# Altium integrated library Motorola Logic Register.IntLib: 65 symbols (part 1 of 2)
Pins are listed as number, name and electrical type; pins without a type are passive.

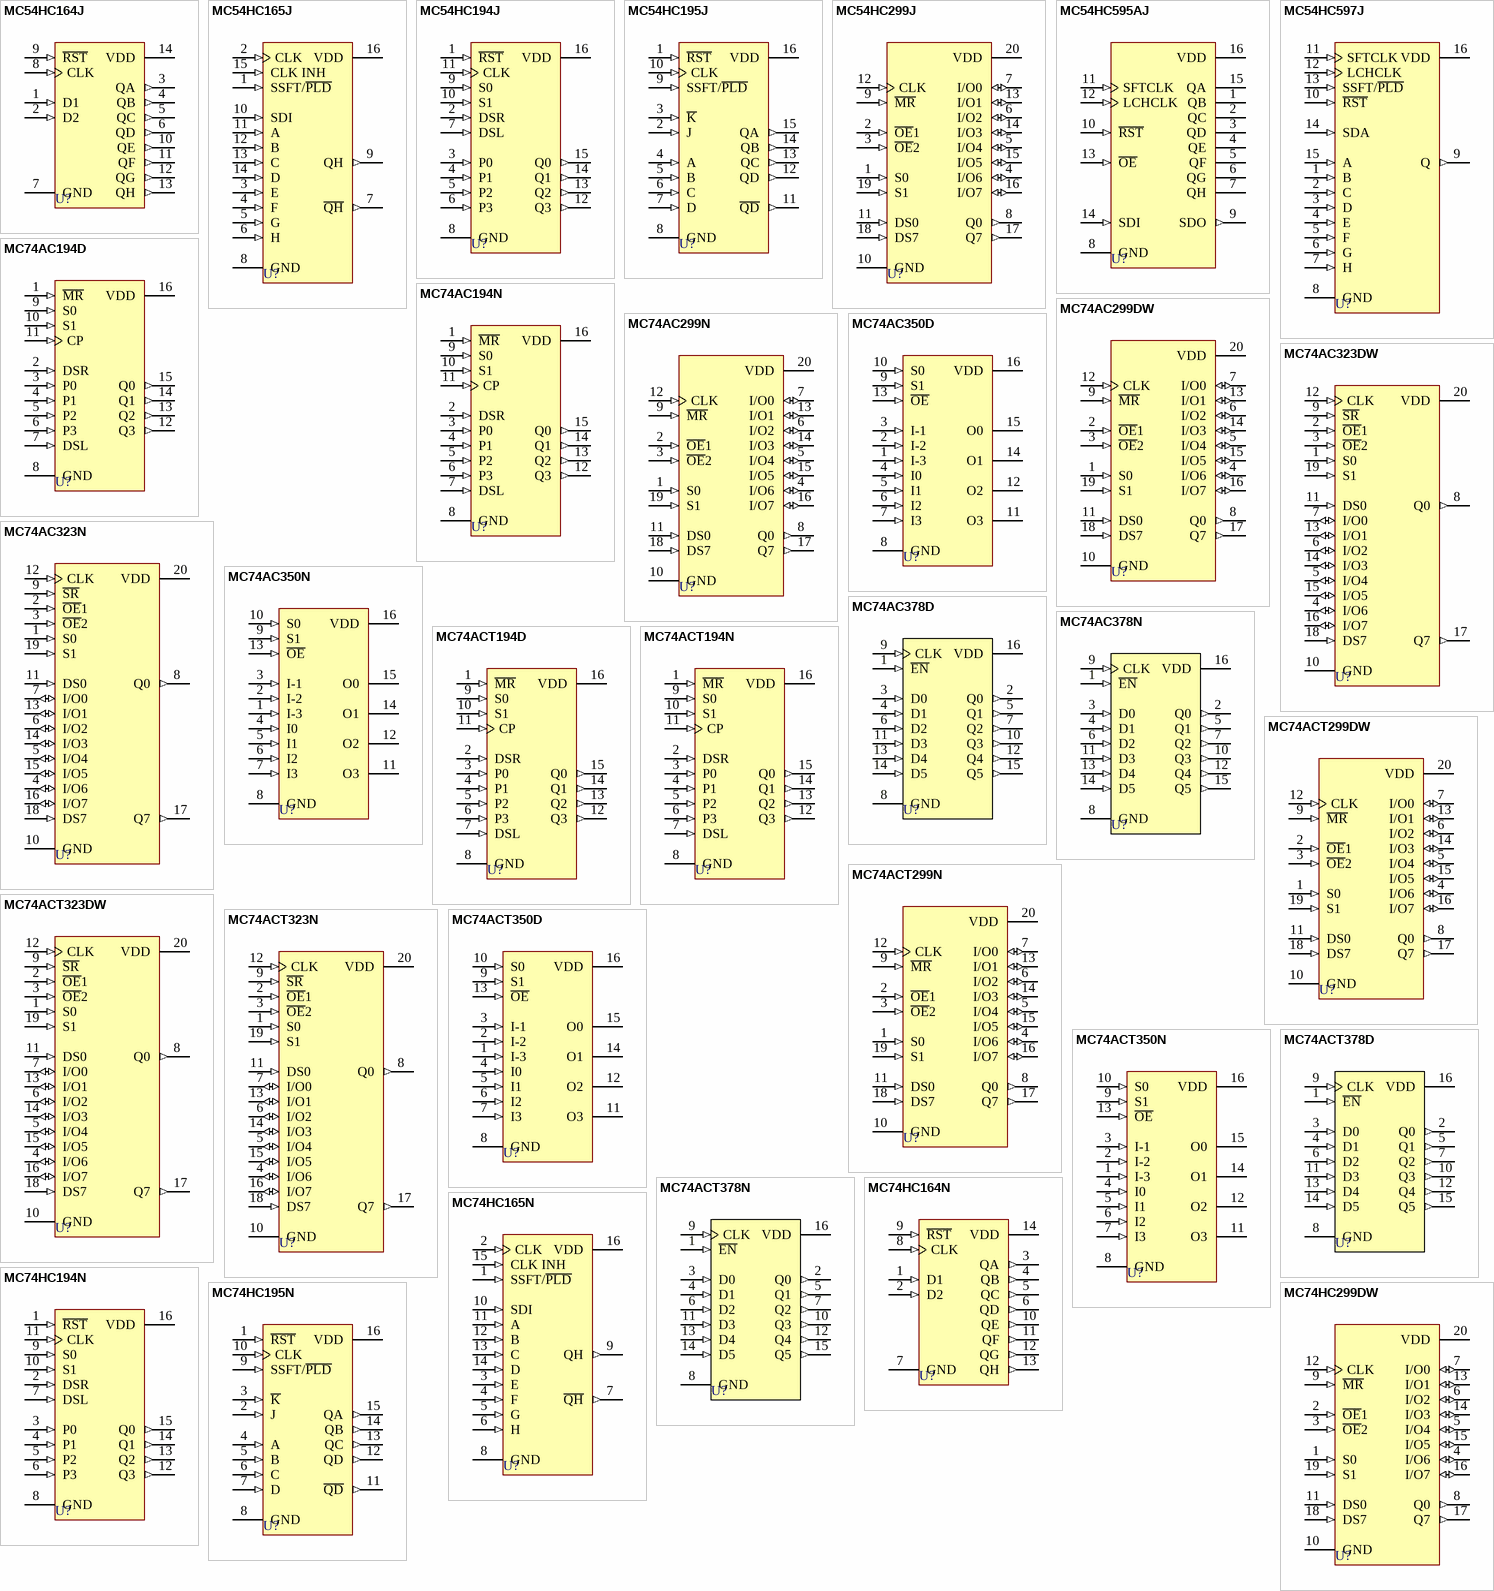
[diagram p0: symbols MC54HC164J to MC74HC299DW]

## MC54HC164J
designator U?
8-Bit Serial-Input/Parallel-Output Shift Register; Published: 17-Jul-2002; LatestRevisionDate: 06-Jun-2005; LatestRevisionNote: Stylized 3D Model Added; DatasheetVersion: 1989; PackageReference: 632-08; Publisher: Altium Limited; PackageDescription: DIP; 14 Leads; Row Spacing 7.62 mm; Pitch 2.54 mm; ComponentLink1Description: Manufacturer Link; ComponentLink1URL: http://www.onsemi.com/site/products/parametrics/0,4446,557,00.html
footprint 632-08 (DIP; 14 Leads; Row Spacing 7.62 mm; Pitch 2.54 mm)
3D model 632-08 (DIP; 14 Leads; Row Spacing 7.62 mm; Pitch 2.54 mm)
signal-integrity model MC54HC164J
pins: 1 D1 (in), 2 D2 (in), 3 QA (out), 4 QB (out), 5 QC (out), 6 QD (out), 7 GND (power), 8 CLK (in), 9 ~{RST} (in), 10 QE (out), 11 QF (out), 12 QG (out), 13 QH (out), 14 VDD (power)

## MC54HC165J
designator U?
8-Bit Serial-or-Parallel-Input/Serial-Output Shift Register; Published: 17-Jul-2002; LatestRevisionDate: 06-Jun-2005; LatestRevisionNote: Stylized 3D Model Added; DatasheetVersion: 1989; PackageReference: 620-09; Publisher: Altium Limited; PackageDescription: DIP; 16 Leads; Row Spacing 7.62 mm; Pitch 2.54 mm; Code_JEDEC: MS-001-BB; ComponentLink1Description: Manufacturer Link; ComponentLink1URL: http://www.onsemi.com/site/products/parametrics/0,4446,557,00.html
footprint 620-09 (DIP; 16 Leads; Row Spacing 7.62 mm; Pitch 2.54 mm)
3D model 620-09 (DIP; 16 Leads; Row Spacing 7.62 mm; Pitch 2.54 mm)
signal-integrity model MC54HC165J
pins: 1 SSFT/~{PLD} (in), 2 CLK (in), 3 E (in), 4 F (in), 5 G (in), 6 H (in), 7 ~{QH} (out), 8 GND (power), 9 QH (out), 10 SDI (in), 11 A (in), 12 B (in), 13 C (in), 14 D (in), 15 CLK INH (in), 16 VDD (power)

## MC54HC194J
designator U?
4-Bit Bidirectional Universal Shift Register; Published: 17-Jul-2002; LatestRevisionDate: 06-Jun-2005; LatestRevisionNote: Stylized 3D Model Added; DatasheetVersion: 1989; PackageReference: 620-09; Publisher: Altium Limited; PackageDescription: DIP; 16 Leads; Row Spacing 7.62 mm; Pitch 2.54 mm; Code_JEDEC: MS-001-BB; ComponentLink1Description: Manufacturer Link; ComponentLink1URL: http://www.onsemi.com/site/products/parametrics/0,4446,557,00.html
footprint 620-09 (DIP; 16 Leads; Row Spacing 7.62 mm; Pitch 2.54 mm)
3D model 620-09 (DIP; 16 Leads; Row Spacing 7.62 mm; Pitch 2.54 mm)
signal-integrity model MC54HC194J
pins: 1 ~{RST} (in), 2 DSR (in), 3 P0 (in), 4 P1 (in), 5 P2 (in), 6 P3 (in), 7 DSL (in), 8 GND (power), 9 S0 (in), 10 S1 (in), 11 CLK (in), 12 Q3 (out), 13 Q2 (out), 14 Q1 (out), 15 Q0 (out), 16 VDD (power)

## MC54HC195J
designator U?
4-Bit Universal Shift Register; Published: 17-Jul-2002; LatestRevisionDate: 06-Jun-2005; LatestRevisionNote: Stylized 3D Model Added; DatasheetVersion: 1989; PackageReference: 620-09; Publisher: Altium Limited; PackageDescription: DIP; 16 Leads; Row Spacing 7.62 mm; Pitch 2.54 mm; Code_JEDEC: MS-001-BB; ComponentLink1Description: Manufacturer Link; ComponentLink1URL: http://www.onsemi.com/site/products/parametrics/0,4446,557,00.html
footprint 620-09 (DIP; 16 Leads; Row Spacing 7.62 mm; Pitch 2.54 mm)
3D model 620-09 (DIP; 16 Leads; Row Spacing 7.62 mm; Pitch 2.54 mm)
signal-integrity model MC54HC195J
pins: 1 ~{RST} (in), 2 J (in), 3 ~{K} (in), 4 A (in), 5 B (in), 6 C (in), 7 D (in), 8 GND (power), 9 SSFT/~{PLD} (in), 10 CLK (in), 11 ~{QD} (out), 12 QD (out), 13 QC (out), 14 QB (out), 15 QA (out), 16 VDD (power)

## MC54HC299J
designator U?
8-Bit Bidirectional Universal Shift Register with Parallel I/O; Published: 17-Jul-2002; LatestRevisionDate: 06-Jun-2005; LatestRevisionNote: Stylized 3D Model Added; DatasheetVersion: 1989; PackageReference: 732-03; Publisher: Altium Limited; PackageDescription: DIP; 20 Leads; Row Spacing 7.62 mm; Pitch 2.54 mm; Code_JEDEC: MS-015-AE; ComponentLink1Description: Manufacturer Link; ComponentLink1URL: http://www.onsemi.com/site/products/parametrics/0,4446,557,00.html
footprint 732-03 (DIP; 20 Leads; Row Spacing 7.62 mm; Pitch 2.54 mm)
3D model 732-03 (DIP; 20 Leads; Row Spacing 7.62 mm; Pitch 2.54 mm)
signal-integrity model MC54HC299J
pins: 1 S0 (in), 2 ~{OE}1 (in), 3 ~{OE}2 (in), 4 I/O6 (io), 5 I/O4 (io), 6 I/O2 (io), 7 I/O0 (io), 8 Q0 (out), 9 ~{MR} (in), 10 GND (power), 11 DS0 (in), 12 CLK (in), 13 I/O1 (io), 14 I/O3 (io), 15 I/O5 (io), 16 I/O7 (io), 17 Q7 (out), 18 DS7 (in), 19 S1 (in), 20 VDD (power)

## MC54HC595AJ
designator U?
8-Bit Serial-Input/Serial-or-Parallel-Output Shift Register with Latched 3-State Outputs; Published: 17-Jul-2002; LatestRevisionDate: 06-Jun-2005; LatestRevisionNote: Stylized 3D Model Added; DatasheetVersion: 1989; PackageReference: 620-09; Publisher: Altium Limited; PackageDescription: DIP; 16 Leads; Row Spacing 7.62 mm; Pitch 2.54 mm; Code_JEDEC: MS-001-BB; ComponentLink1Description: Manufacturer Link; ComponentLink1URL: http://www.onsemi.com/site/products/parametrics/0,4446,557,00.html
footprint 620-09 (DIP; 16 Leads; Row Spacing 7.62 mm; Pitch 2.54 mm)
3D model 620-09 (DIP; 16 Leads; Row Spacing 7.62 mm; Pitch 2.54 mm)
signal-integrity model MC54HC595AJ
pins: 1 QB (hiz), 2 QC (hiz), 3 QD (hiz), 4 QE (hiz), 5 QF (hiz), 6 QG (hiz), 7 QH (hiz), 8 GND (power), 9 SDO (out), 10 ~{RST} (in), 11 SFTCLK (in), 12 LCHCLK (in), 13 ~{OE} (in), 14 SDI (in), 15 QA (hiz), 16 VDD (power)

## MC54HC597J
designator U?
8-Bit Serial-or-Parallel-Input/Serial-Output Shift Register with Input Latch; Published: 17-Jul-2002; LatestRevisionDate: 06-Jun-2005; LatestRevisionNote: Stylized 3D Model Added; DatasheetVersion: 1989; PackageReference: 620-09; Publisher: Altium Limited; PackageDescription: DIP; 16 Leads; Row Spacing 7.62 mm; Pitch 2.54 mm; Code_JEDEC: MS-001-BB; ComponentLink1Description: Manufacturer Link; ComponentLink1URL: http://www.onsemi.com/site/products/parametrics/0,4446,557,00.html
footprint 620-09 (DIP; 16 Leads; Row Spacing 7.62 mm; Pitch 2.54 mm)
3D model 620-09 (DIP; 16 Leads; Row Spacing 7.62 mm; Pitch 2.54 mm)
signal-integrity model MC54HC597J
pins: 1 B (in), 2 C (in), 3 D (in), 4 E (in), 5 F (in), 6 G (in), 7 H (in), 8 GND (power), 9 Q (out), 10 ~{RST} (in), 11 SFTCLK (in), 12 LCHCLK (in), 13 SSFT/~{PLD} (in), 14 SDA (in), 15 A (in), 16 VDD (power)

## MC74AC194D
designator U?
4-Bit Bidirectional Universal Shift Register; Published: 17-Jul-2002; LatestRevisionDate: 13-Apr-2006; LatestRevisionNote: IPC-7351 Footprint Added.; DatasheetVersion: 1990; PackageVersion: 1991; PackageReference: 751B-03; Publisher: Altium Limited; PackageDescription: 16-Pin Small Outline Integrated Circuit 1.27 mm Pitch; Code_JEDEC: MS-012-AC; Code_IPC: SOIC127P600-16; ComponentLink1Description: Manufacturer Link; ComponentLink1URL: http://www.onsemi.com/site/products/parametrics/0,4446,557,00.html
footprint 751B-03_N (SOIC, 16-Leads, Body 9.9x3.9mm, Pitch 1.27mm, IPC Medium Density)
footprint 751B-03_L (SOIC, 16-Leads, Body 9.9x3.9mm, Pitch 1.27mm, IPC High Density)
footprint 751B-03_M (SOIC, 16-Leads, Body 9.9x3.9mm, Pitch 1.27mm, IPC Low Density)
3D model 751B-03 (16-Pin Small Outline Integrated Circuit 1.27 mm Pitch)
signal-integrity model MC74AC194D
pins: 1 ~{MR} (in), 2 DSR (in), 3 P0 (in), 4 P1 (in), 5 P2 (in), 6 P3 (in), 7 DSL (in), 8 GND (power), 9 S0 (in), 10 S1 (in), 11 CP (in), 12 Q3 (out), 13 Q2 (out), 14 Q1 (out), 15 Q0 (out), 16 VDD (power)

## MC74AC194N
designator U?
4-Bit Bidirectional Universal Shift Register; Published: 17-Jul-2002; LatestRevisionDate: 06-Jun-2005; LatestRevisionNote: Stylized 3D Model Added; DatasheetVersion: 1990; PackageReference: 648-08; Publisher: Altium Limited; PackageDescription: DIP; 16 Leads; Row Spacing 7.62 mm; Pitch 2.54 mm; Code_JEDEC: MS-001-BB; ComponentLink1Description: Manufacturer Link; ComponentLink1URL: http://www.onsemi.com/site/products/parametrics/0,4446,557,00.html
footprint 648-08 (DIP; 16 Leads; Row Spacing 7.62 mm; Pitch 2.54 mm)
3D model 620-09 (DIP; 16 Leads; Row Spacing 7.62 mm; Pitch 2.54 mm)
signal-integrity model MC74AC194N
pins: 1 ~{MR} (in), 2 DSR (in), 3 P0 (in), 4 P1 (in), 5 P2 (in), 6 P3 (in), 7 DSL (in), 8 GND (power), 9 S0 (in), 10 S1 (in), 11 CP (in), 12 Q3 (out), 13 Q2 (out), 14 Q1 (out), 15 Q0 (out), 16 VDD (power)

## MC74AC299DW
designator U?
8-Input Shift/Storage register with Common Parallel I/O Pins; Published: 17-Jul-2002; LatestRevisionDate: 13-Apr-2006; LatestRevisionNote: IPC-7351 Footprint Added.; DatasheetVersion: 1990; PackageReference: 751D-03; Publisher: Altium Limited; PackageDescription: 20-Pin Small Outline Integrated Circuit 1.27 mm Pitch; ComponentLink1Description: Manufacturer Link; ComponentLink1URL: http://www.onsemi.com/site/products/parametrics/0,4446,557,00.html; ComponentLink2Description: Datasheet; ComponentLink2URL: http://www.onsemi.com/pub/Collateral/MC74AC299-D.PDF
footprint 751D-03_N (SOIC, 20-Leads, Body 12.8x7.5mm, Pitch 1.27mm, IPC Medium Density)
footprint 751D-03_L (SOIC, 20-Leads, Body 12.8x7.5mm, Pitch 1.27mm, IPC High Density)
footprint 751D-03_M (SOIC, 20-Leads, Body 12.8x7.5mm, Pitch 1.27mm, IPC Low Density)
3D model 751D-03 (20-Pin Small Outline Integrated Circuit 1.27 mm Pitch)
signal-integrity model MC74AC299DW
pins: 1 S0 (in), 2 ~{OE}1 (in), 3 ~{OE}2 (in), 4 I/O6 (io), 5 I/O4 (io), 6 I/O2 (io), 7 I/O0 (io), 8 Q0 (out), 9 ~{MR} (in), 10 GND (power), 11 DS0 (in), 12 CLK (in), 13 I/O1 (io), 14 I/O3 (io), 15 I/O5 (io), 16 I/O7 (io), 17 Q7 (out), 18 DS7 (in), 19 S1 (in), 20 VDD (power)

## MC74AC299N
designator U?
8-Input Shift/Storage register with Common Parallel I/O Pins; Published: 17-Jul-2002; LatestRevisionDate: 06-Jun-2005; LatestRevisionNote: Stylized 3D Model Added; DatasheetVersion: 1990; PackageReference: 738-03; Publisher: Altium Limited; PackageDescription: DIP; 20 Leads; Row Spacing 7.62 mm; Pitch 2.54 mm; Code_JEDEC: MS-001-AD; ComponentLink1Description: Manufacturer Link; ComponentLink1URL: http://www.onsemi.com/site/products/parametrics/0,4446,557,00.html; ComponentLink2Description: Datasheet; ComponentLink2URL: http://www.onsemi.com/pub/Collateral/MC74AC299-D.PDF
footprint 738-03 (DIP; 20 Leads; Row Spacing 7.62 mm; Pitch 2.54 mm)
3D model 738-03 (DIP; 20 Leads; Row Spacing 7.62 mm; Pitch 2.54 mm)
signal-integrity model MC74AC299N
pins: 1 S0 (in), 2 ~{OE}1 (in), 3 ~{OE}2 (in), 4 I/O6 (io), 5 I/O4 (io), 6 I/O2 (io), 7 I/O0 (io), 8 Q0 (out), 9 ~{MR} (in), 10 GND (power), 11 DS0 (in), 12 CLK (in), 13 I/O1 (io), 14 I/O3 (io), 15 I/O5 (io), 16 I/O7 (io), 17 Q7 (out), 18 DS7 (in), 19 S1 (in), 20 VDD (power)

## MC74AC323DW
designator U?
8-Input Universal Shift/Storage Register with Synchronous Reset and Common I/O Pins; Published: 17-Jul-2002; LatestRevisionDate: 13-Apr-2006; LatestRevisionNote: IPC-7351 Footprint Added.; DatasheetVersion: 1990; PackageReference: 751D-03; Publisher: Altium Limited; PackageDescription: 20-Pin Small Outline Integrated Circuit 1.27 mm Pitch; ComponentLink1Description: Manufacturer Link; ComponentLink1URL: http://www.onsemi.com/site/products/parametrics/0,4446,557,00.html
footprint 751D-03_N (SOIC, 20-Leads, Body 12.8x7.5mm, Pitch 1.27mm, IPC Medium Density)
footprint 751D-03_L (SOIC, 20-Leads, Body 12.8x7.5mm, Pitch 1.27mm, IPC High Density)
footprint 751D-03_M (SOIC, 20-Leads, Body 12.8x7.5mm, Pitch 1.27mm, IPC Low Density)
3D model 751D-03 (20-Pin Small Outline Integrated Circuit 1.27 mm Pitch)
signal-integrity model MC74AC323DW
pins: 1 S0 (in), 2 ~{OE}1 (in), 3 ~{OE}2 (in), 4 I/O6 (io), 5 I/O4 (io), 6 I/O2 (io), 7 I/O0 (io), 8 Q0 (out), 9 ~{SR} (in), 10 GND (power), 11 DS0 (in), 12 CLK (in), 13 I/O1 (io), 14 I/O3 (io), 15 I/O5 (io), 16 I/O7 (io), 17 Q7 (out), 18 DS7 (in), 19 S1 (in), 20 VDD (power)

## MC74AC323N
designator U?
8-Input Universal Shift/Storage Register with Synchronous Reset and Common I/O Pins; Published: 17-Jul-2002; LatestRevisionDate: 06-Jun-2005; LatestRevisionNote: Stylized 3D Model Added; DatasheetVersion: 1990; PackageReference: 738-03; Publisher: Altium Limited; PackageDescription: DIP; 20 Leads; Row Spacing 7.62 mm; Pitch 2.54 mm; Code_JEDEC: MS-001-AD; ComponentLink1Description: Manufacturer Link; ComponentLink1URL: http://www.onsemi.com/site/products/parametrics/0,4446,557,00.html
footprint 738-03 (DIP; 20 Leads; Row Spacing 7.62 mm; Pitch 2.54 mm)
3D model 738-03 (DIP; 20 Leads; Row Spacing 7.62 mm; Pitch 2.54 mm)
signal-integrity model MC74AC323N
pins: 1 S0 (in), 2 ~{OE}1 (in), 3 ~{OE}2 (in), 4 I/O6 (io), 5 I/O4 (io), 6 I/O2 (io), 7 I/O0 (io), 8 Q0 (out), 9 ~{SR} (in), 10 GND (power), 11 DS0 (in), 12 CLK (in), 13 I/O1 (io), 14 I/O3 (io), 15 I/O5 (io), 16 I/O7 (io), 17 Q7 (out), 18 DS7 (in), 19 S1 (in), 20 VDD (power)

## MC74AC350D
designator U?
4-Bit Shifter with 3-State Outputs; Published: 17-Jul-2002; LatestRevisionDate: 13-Apr-2006; LatestRevisionNote: IPC-7351 Footprint Added.; DatasheetVersion: 1990; PackageVersion: 1991; PackageReference: 751B-03; Publisher: Altium Limited; PackageDescription: 16-Pin Small Outline Integrated Circuit 1.27 mm Pitch; Code_JEDEC: MS-012-AC; Code_IPC: SOIC127P600-16; ComponentLink1Description: Manufacturer Link; ComponentLink1URL: http://www.onsemi.com/site/products/parametrics/0,4446,557,00.html
footprint 751B-03_N (SOIC, 16-Leads, Body 9.9x3.9mm, Pitch 1.27mm, IPC Medium Density)
footprint 751B-03_L (SOIC, 16-Leads, Body 9.9x3.9mm, Pitch 1.27mm, IPC High Density)
footprint 751B-03_M (SOIC, 16-Leads, Body 9.9x3.9mm, Pitch 1.27mm, IPC Low Density)
3D model 751B-03 (16-Pin Small Outline Integrated Circuit 1.27 mm Pitch)
signal-integrity model MC74AC350D
pins: 1 I-3 (in), 2 I-2 (in), 3 I-1 (in), 4 I0 (in), 5 I1 (in), 6 I2 (in), 7 I3 (in), 8 GND (power), 9 S1 (in), 10 S0 (in), 11 O3 (hiz), 12 O2 (hiz), 13 ~{OE} (in), 14 O1 (hiz), 15 O0 (hiz), 16 VDD (power)

## MC74AC350N
designator U?
4-Bit Shifter with 3-State Outputs; Published: 17-Jul-2002; LatestRevisionDate: 06-Jun-2005; LatestRevisionNote: Stylized 3D Model Added; DatasheetVersion: 1990; PackageReference: 648-08; Publisher: Altium Limited; PackageDescription: DIP; 16 Leads; Row Spacing 7.62 mm; Pitch 2.54 mm; Code_JEDEC: MS-001-BB; ComponentLink1Description: Manufacturer Link; ComponentLink1URL: http://www.onsemi.com/site/products/parametrics/0,4446,557,00.html
footprint 648-08 (DIP; 16 Leads; Row Spacing 7.62 mm; Pitch 2.54 mm)
3D model 620-09 (DIP; 16 Leads; Row Spacing 7.62 mm; Pitch 2.54 mm)
signal-integrity model MC74AC350N
pins: 1 I-3 (in), 2 I-2 (in), 3 I-1 (in), 4 I0 (in), 5 I1 (in), 6 I2 (in), 7 I3 (in), 8 GND (power), 9 S1 (in), 10 S0 (in), 11 O3 (hiz), 12 O2 (hiz), 13 ~{OE} (in), 14 O1 (hiz), 15 O0 (hiz), 16 VDD (power)

## MC74AC378D
designator U?
Parallel D-Type Register with Enable; Published: 17-Jul-2002; LatestRevisionDate: 13-Apr-2006; LatestRevisionNote: IPC-7351 Footprint Added.; DatasheetVersion: 1990; PackageVersion: 1991; PackageReference: 751B-03; Publisher: Altium Limited; PackageDescription: 16-Pin Small Outline Integrated Circuit 1.27 mm Pitch; Code_JEDEC: MS-012-AC; Code_IPC: SOIC127P600-16; ComponentLink1Description: Manufacturer Link; ComponentLink1URL: http://www.onsemi.com/site/products/parametrics/0,4446,557,00.html
footprint 751B-03_N (SOIC, 16-Leads, Body 9.9x3.9mm, Pitch 1.27mm, IPC Medium Density)
footprint 751B-03_L (SOIC, 16-Leads, Body 9.9x3.9mm, Pitch 1.27mm, IPC High Density)
footprint 751B-03_M (SOIC, 16-Leads, Body 9.9x3.9mm, Pitch 1.27mm, IPC Low Density)
3D model 751B-03 (16-Pin Small Outline Integrated Circuit 1.27 mm Pitch)
signal-integrity model MC74AC378D
pins: 1 ~{EN} (in), 2 Q0 (out), 3 D0 (in), 4 D1 (in), 5 Q1 (out), 6 D2 (in), 7 Q2 (out), 8 GND (power), 9 CLK (in), 10 Q3 (out), 11 D3 (in), 12 Q4 (out), 13 D4 (in), 14 D5 (in), 15 Q5 (out), 16 VDD (power)

## MC74AC378N
designator U?
Parallel D-Type Register with Enable; Published: 17-Jul-2002; LatestRevisionDate: 06-Jun-2005; LatestRevisionNote: Stylized 3D Model Added; DatasheetVersion: 1990; PackageReference: 648-08; Publisher: Altium Limited; PackageDescription: DIP; 16 Leads; Row Spacing 7.62 mm; Pitch 2.54 mm; Code_JEDEC: MS-001-BB; ComponentLink1Description: Manufacturer Link; ComponentLink1URL: http://www.onsemi.com/site/products/parametrics/0,4446,557,00.html
footprint 648-08 (DIP; 16 Leads; Row Spacing 7.62 mm; Pitch 2.54 mm)
3D model 620-09 (DIP; 16 Leads; Row Spacing 7.62 mm; Pitch 2.54 mm)
signal-integrity model MC74AC378N
pins: 1 ~{EN} (in), 2 Q0 (out), 3 D0 (in), 4 D1 (in), 5 Q1 (out), 6 D2 (in), 7 Q2 (out), 8 GND (power), 9 CLK (in), 10 Q3 (out), 11 D3 (in), 12 Q4 (out), 13 D4 (in), 14 D5 (in), 15 Q5 (out), 16 VDD (power)

## MC74ACT194D
designator U?
4-Bit Bidirectional Universal Shift Register; Published: 17-Jul-2002; LatestRevisionDate: 13-Apr-2006; LatestRevisionNote: IPC-7351 Footprint Added.; DatasheetVersion: 1990; PackageVersion: 1991; PackageReference: 751B-03; Publisher: Altium Limited; PackageDescription: 16-Pin Small Outline Integrated Circuit 1.27 mm Pitch; Code_JEDEC: MS-012-AC; Code_IPC: SOIC127P600-16; ComponentLink1Description: Manufacturer Link; ComponentLink1URL: http://www.onsemi.com/site/products/parametrics/0,4446,557,00.html
footprint 751B-03_N (SOIC, 16-Leads, Body 9.9x3.9mm, Pitch 1.27mm, IPC Medium Density)
footprint 751B-03_L (SOIC, 16-Leads, Body 9.9x3.9mm, Pitch 1.27mm, IPC High Density)
footprint 751B-03_M (SOIC, 16-Leads, Body 9.9x3.9mm, Pitch 1.27mm, IPC Low Density)
3D model 751B-03 (16-Pin Small Outline Integrated Circuit 1.27 mm Pitch)
signal-integrity model MC74ACT194D
pins: 1 ~{MR} (in), 2 DSR (in), 3 P0 (in), 4 P1 (in), 5 P2 (in), 6 P3 (in), 7 DSL (in), 8 GND (power), 9 S0 (in), 10 S1 (in), 11 CP (in), 12 Q3 (out), 13 Q2 (out), 14 Q1 (out), 15 Q0 (out), 16 VDD (power)

## MC74ACT194N
designator U?
4-Bit Bidirectional Universal Shift Register; Published: 17-Jul-2002; LatestRevisionDate: 06-Jun-2005; LatestRevisionNote: Stylized 3D Model Added; DatasheetVersion: 1990; PackageReference: 648-08; Publisher: Altium Limited; PackageDescription: DIP; 16 Leads; Row Spacing 7.62 mm; Pitch 2.54 mm; Code_JEDEC: MS-001-BB; ComponentLink1Description: Manufacturer Link; ComponentLink1URL: http://www.onsemi.com/site/products/parametrics/0,4446,557,00.html
footprint 648-08 (DIP; 16 Leads; Row Spacing 7.62 mm; Pitch 2.54 mm)
3D model 620-09 (DIP; 16 Leads; Row Spacing 7.62 mm; Pitch 2.54 mm)
signal-integrity model MC74ACT194N
pins: 1 ~{MR} (in), 2 DSR (in), 3 P0 (in), 4 P1 (in), 5 P2 (in), 6 P3 (in), 7 DSL (in), 8 GND (power), 9 S0 (in), 10 S1 (in), 11 CP (in), 12 Q3 (out), 13 Q2 (out), 14 Q1 (out), 15 Q0 (out), 16 VDD (power)

## MC74ACT299DW
designator U?
8-Input Shift/Storage register with Common Parallel I/O Pins; Published: 17-Jul-2002; LatestRevisionDate: 13-Apr-2006; LatestRevisionNote: IPC-7351 Footprint Added.; DatasheetVersion: 1990; PackageReference: 751D-03; Publisher: Altium Limited; PackageDescription: 20-Pin Small Outline Integrated Circuit 1.27 mm Pitch; ComponentLink1Description: Manufacturer Link; ComponentLink1URL: http://www.onsemi.com/site/products/parametrics/0,4446,557,00.html; ComponentLink2Description: Datasheet; ComponentLink2URL: http://www.onsemi.com/pub/Collateral/MC74AC299-D.PDF
footprint 751D-03_N (SOIC, 20-Leads, Body 12.8x7.5mm, Pitch 1.27mm, IPC Medium Density)
footprint 751D-03_L (SOIC, 20-Leads, Body 12.8x7.5mm, Pitch 1.27mm, IPC High Density)
footprint 751D-03_M (SOIC, 20-Leads, Body 12.8x7.5mm, Pitch 1.27mm, IPC Low Density)
3D model 751D-03 (20-Pin Small Outline Integrated Circuit 1.27 mm Pitch)
signal-integrity model MC74ACT299DW
pins: 1 S0 (in), 2 ~{OE}1 (in), 3 ~{OE}2 (in), 4 I/O6 (io), 5 I/O4 (io), 6 I/O2 (io), 7 I/O0 (io), 8 Q0 (out), 9 ~{MR} (in), 10 GND (power), 11 DS0 (in), 12 CLK (in), 13 I/O1 (io), 14 I/O3 (io), 15 I/O5 (io), 16 I/O7 (io), 17 Q7 (out), 18 DS7 (in), 19 S1 (in), 20 VDD (power)

## MC74ACT299N
designator U?
8-Input Shift/Storage register with Common Parallel I/O Pins; Published: 17-Jul-2002; LatestRevisionDate: 06-Jun-2005; LatestRevisionNote: Stylized 3D Model Added; DatasheetVersion: 1990; PackageReference: 738-03; Publisher: Altium Limited; PackageDescription: DIP; 20 Leads; Row Spacing 7.62 mm; Pitch 2.54 mm; Code_JEDEC: MS-001-AD; ComponentLink1Description: Manufacturer Link; ComponentLink1URL: http://www.onsemi.com/site/products/parametrics/0,4446,557,00.html; ComponentLink2Description: Datasheet; ComponentLink2URL: http://www.onsemi.com/pub/Collateral/MC74AC299-D.PDF
footprint 738-03 (DIP; 20 Leads; Row Spacing 7.62 mm; Pitch 2.54 mm)
3D model 738-03 (DIP; 20 Leads; Row Spacing 7.62 mm; Pitch 2.54 mm)
signal-integrity model MC74ACT299N
pins: 1 S0 (in), 2 ~{OE}1 (in), 3 ~{OE}2 (in), 4 I/O6 (io), 5 I/O4 (io), 6 I/O2 (io), 7 I/O0 (io), 8 Q0 (out), 9 ~{MR} (in), 10 GND (power), 11 DS0 (in), 12 CLK (in), 13 I/O1 (io), 14 I/O3 (io), 15 I/O5 (io), 16 I/O7 (io), 17 Q7 (out), 18 DS7 (in), 19 S1 (in), 20 VDD (power)

## MC74ACT323DW
designator U?
8-Input Universal Shift/Storage Register with Synchronous Reset and Common I/O Pins; Published: 17-Jul-2002; LatestRevisionDate: 13-Apr-2006; LatestRevisionNote: IPC-7351 Footprint Added.; DatasheetVersion: 1990; PackageReference: 751D-03; Publisher: Altium Limited; PackageDescription: 20-Pin Small Outline Integrated Circuit 1.27 mm Pitch; ComponentLink1Description: Manufacturer Link; ComponentLink1URL: http://www.onsemi.com/site/products/parametrics/0,4446,557,00.html
footprint 751D-03_N (SOIC, 20-Leads, Body 12.8x7.5mm, Pitch 1.27mm, IPC Medium Density)
footprint 751D-03_L (SOIC, 20-Leads, Body 12.8x7.5mm, Pitch 1.27mm, IPC High Density)
footprint 751D-03_M (SOIC, 20-Leads, Body 12.8x7.5mm, Pitch 1.27mm, IPC Low Density)
3D model 751D-03 (20-Pin Small Outline Integrated Circuit 1.27 mm Pitch)
signal-integrity model MC74ACT323DW
pins: 1 S0 (in), 2 ~{OE}1 (in), 3 ~{OE}2 (in), 4 I/O6 (io), 5 I/O4 (io), 6 I/O2 (io), 7 I/O0 (io), 8 Q0 (out), 9 ~{SR} (in), 10 GND (power), 11 DS0 (in), 12 CLK (in), 13 I/O1 (io), 14 I/O3 (io), 15 I/O5 (io), 16 I/O7 (io), 17 Q7 (out), 18 DS7 (in), 19 S1 (in), 20 VDD (power)

## MC74ACT323N
designator U?
8-Input Universal Shift/Storage Register with Synchronous Reset and Common I/O Pins; Published: 17-Jul-2002; LatestRevisionDate: 06-Jun-2005; LatestRevisionNote: Stylized 3D Model Added; DatasheetVersion: 1990; PackageReference: 738-03; Publisher: Altium Limited; PackageDescription: DIP; 20 Leads; Row Spacing 7.62 mm; Pitch 2.54 mm; Code_JEDEC: MS-001-AD; ComponentLink1Description: Manufacturer Link; ComponentLink1URL: http://www.onsemi.com/site/products/parametrics/0,4446,557,00.html
footprint 738-03 (DIP; 20 Leads; Row Spacing 7.62 mm; Pitch 2.54 mm)
3D model 738-03 (DIP; 20 Leads; Row Spacing 7.62 mm; Pitch 2.54 mm)
signal-integrity model MC74ACT323N
pins: 1 S0 (in), 2 ~{OE}1 (in), 3 ~{OE}2 (in), 4 I/O6 (io), 5 I/O4 (io), 6 I/O2 (io), 7 I/O0 (io), 8 Q0 (out), 9 ~{SR} (in), 10 GND (power), 11 DS0 (in), 12 CLK (in), 13 I/O1 (io), 14 I/O3 (io), 15 I/O5 (io), 16 I/O7 (io), 17 Q7 (out), 18 DS7 (in), 19 S1 (in), 20 VDD (power)

## MC74ACT350D
designator U?
4-Bit Shifter with 3-State Outputs; Published: 17-Jul-2002; LatestRevisionDate: 13-Apr-2006; LatestRevisionNote: IPC-7351 Footprint Added.; DatasheetVersion: 1990; PackageVersion: 1991; PackageReference: 751B-03; Publisher: Altium Limited; PackageDescription: 16-Pin Small Outline Integrated Circuit 1.27 mm Pitch; Code_JEDEC: MS-012-AC; Code_IPC: SOIC127P600-16; ComponentLink1Description: Manufacturer Link; ComponentLink1URL: http://www.onsemi.com/site/products/parametrics/0,4446,557,00.html
footprint 751B-03_N (SOIC, 16-Leads, Body 9.9x3.9mm, Pitch 1.27mm, IPC Medium Density)
footprint 751B-03_L (SOIC, 16-Leads, Body 9.9x3.9mm, Pitch 1.27mm, IPC High Density)
footprint 751B-03_M (SOIC, 16-Leads, Body 9.9x3.9mm, Pitch 1.27mm, IPC Low Density)
3D model 751B-03 (16-Pin Small Outline Integrated Circuit 1.27 mm Pitch)
signal-integrity model MC74ACT350D
pins: 1 I-3 (in), 2 I-2 (in), 3 I-1 (in), 4 I0 (in), 5 I1 (in), 6 I2 (in), 7 I3 (in), 8 GND (power), 9 S1 (in), 10 S0 (in), 11 O3 (hiz), 12 O2 (hiz), 13 ~{OE} (in), 14 O1 (hiz), 15 O0 (hiz), 16 VDD (power)

## MC74ACT350N
designator U?
4-Bit Shifter with 3-State Outputs; Published: 17-Jul-2002; LatestRevisionDate: 06-Jun-2005; LatestRevisionNote: Stylized 3D Model Added; DatasheetVersion: 1990; PackageReference: 648-08; Publisher: Altium Limited; PackageDescription: DIP; 16 Leads; Row Spacing 7.62 mm; Pitch 2.54 mm; Code_JEDEC: MS-001-BB; ComponentLink1Description: Manufacturer Link; ComponentLink1URL: http://www.onsemi.com/site/products/parametrics/0,4446,557,00.html
footprint 648-08 (DIP; 16 Leads; Row Spacing 7.62 mm; Pitch 2.54 mm)
3D model 620-09 (DIP; 16 Leads; Row Spacing 7.62 mm; Pitch 2.54 mm)
signal-integrity model MC74ACT350N
pins: 1 I-3 (in), 2 I-2 (in), 3 I-1 (in), 4 I0 (in), 5 I1 (in), 6 I2 (in), 7 I3 (in), 8 GND (power), 9 S1 (in), 10 S0 (in), 11 O3 (hiz), 12 O2 (hiz), 13 ~{OE} (in), 14 O1 (hiz), 15 O0 (hiz), 16 VDD (power)

## MC74ACT378D
designator U?
Parallel D-Type Register with Enable; Published: 17-Jul-2002; LatestRevisionDate: 13-Apr-2006; LatestRevisionNote: IPC-7351 Footprint Added.; DatasheetVersion: 1990; PackageVersion: 1991; PackageReference: 751B-03; Publisher: Altium Limited; PackageDescription: 16-Pin Small Outline Integrated Circuit 1.27 mm Pitch; Code_JEDEC: MS-012-AC; Code_IPC: SOIC127P600-16; ComponentLink1Description: Manufacturer Link; ComponentLink1URL: http://www.onsemi.com/site/products/parametrics/0,4446,557,00.html
footprint 751B-03_N (SOIC, 16-Leads, Body 9.9x3.9mm, Pitch 1.27mm, IPC Medium Density)
footprint 751B-03_L (SOIC, 16-Leads, Body 9.9x3.9mm, Pitch 1.27mm, IPC High Density)
footprint 751B-03_M (SOIC, 16-Leads, Body 9.9x3.9mm, Pitch 1.27mm, IPC Low Density)
3D model 751B-03 (16-Pin Small Outline Integrated Circuit 1.27 mm Pitch)
signal-integrity model MC74ACT378D
pins: 1 ~{EN} (in), 2 Q0 (out), 3 D0 (in), 4 D1 (in), 5 Q1 (out), 6 D2 (in), 7 Q2 (out), 8 GND (power), 9 CLK (in), 10 Q3 (out), 11 D3 (in), 12 Q4 (out), 13 D4 (in), 14 D5 (in), 15 Q5 (out), 16 VDD (power)

## MC74ACT378N
designator U?
Parallel D-Type Register with Enable; Published: 17-Jul-2002; LatestRevisionDate: 06-Jun-2005; LatestRevisionNote: Stylized 3D Model Added; DatasheetVersion: 1990; PackageReference: 648-08; Publisher: Altium Limited; PackageDescription: DIP; 16 Leads; Row Spacing 7.62 mm; Pitch 2.54 mm; Code_JEDEC: MS-001-BB; ComponentLink1Description: Manufacturer Link; ComponentLink1URL: http://www.onsemi.com/site/products/parametrics/0,4446,557,00.html
footprint 648-08 (DIP; 16 Leads; Row Spacing 7.62 mm; Pitch 2.54 mm)
3D model 620-09 (DIP; 16 Leads; Row Spacing 7.62 mm; Pitch 2.54 mm)
signal-integrity model MC74ACT378N
pins: 1 ~{EN} (in), 2 Q0 (out), 3 D0 (in), 4 D1 (in), 5 Q1 (out), 6 D2 (in), 7 Q2 (out), 8 GND (power), 9 CLK (in), 10 Q3 (out), 11 D3 (in), 12 Q4 (out), 13 D4 (in), 14 D5 (in), 15 Q5 (out), 16 VDD (power)

## MC74HC164N
designator U?
8-Bit Serial-Input/Parallel-Output Shift Register; Published: 17-Jul-2002; LatestRevisionDate: 06-Jun-2005; LatestRevisionNote: Stylized 3D Model Added; DatasheetVersion: 1989; PackageVersion: 1997; PackageReference: 646-06; Publisher: Altium Limited; PackageDescription: DIP; 14 Leads; Row Spacing 7.62 mm; Pitch 2.54 mm; ComponentLink1Description: Manufacturer Link; ComponentLink1URL: http://www.onsemi.com/site/products/parametrics/0,4446,557,00.html
footprint 646-06 (DIP; 14 Leads; Row Spacing 7.62 mm; Pitch 2.54 mm)
3D model 646-06 (DIP; 14 Leads; Row Spacing 7.62 mm; Pitch 2.54 mm)
signal-integrity model MC74HC164N
pins: 1 D1 (in), 2 D2 (in), 3 QA (out), 4 QB (out), 5 QC (out), 6 QD (out), 7 GND (power), 8 CLK (in), 9 ~{RST} (in), 10 QE (out), 11 QF (out), 12 QG (out), 13 QH (out), 14 VDD (power)

## MC74HC165N
designator U?
8-Bit Serial-or-Parallel-Input/Serial-Output Shift Register; Published: 17-Jul-2002; LatestRevisionDate: 06-Jun-2005; LatestRevisionNote: Stylized 3D Model Added; DatasheetVersion: 1989; PackageReference: 648-06; Publisher: Altium Limited; PackageDescription: DIP; 16 Leads; Row Spacing 7.62 mm; Pitch 2.54 mm; ComponentLink1Description: Manufacturer Link; ComponentLink1URL: http://www.onsemi.com/site/products/parametrics/0,4446,557,00.html
footprint 648-06 (DIP; 16 Leads; Row Spacing 7.62 mm; Pitch 2.54 mm)
3D model 648-06 (DIP; 16 Leads; Row Spacing 7.62 mm; Pitch 2.54 mm)
signal-integrity model MC74HC165N
pins: 1 SSFT/~{PLD} (in), 2 CLK (in), 3 E (in), 4 F (in), 5 G (in), 6 H (in), 7 ~{QH} (out), 8 GND (power), 9 QH (out), 10 SDI (in), 11 A (in), 12 B (in), 13 C (in), 14 D (in), 15 CLK INH (in), 16 VDD (power)

## MC74HC194N
designator U?
4-Bit Bidirectional Universal Shift Register; Published: 17-Jul-2002; LatestRevisionDate: 06-Jun-2005; LatestRevisionNote: Stylized 3D Model Added; DatasheetVersion: 1989; PackageReference: 648-06; Publisher: Altium Limited; PackageDescription: DIP; 16 Leads; Row Spacing 7.62 mm; Pitch 2.54 mm; ComponentLink1Description: Manufacturer Link; ComponentLink1URL: http://www.onsemi.com/site/products/parametrics/0,4446,557,00.html
footprint 648-06 (DIP; 16 Leads; Row Spacing 7.62 mm; Pitch 2.54 mm)
3D model 648-06 (DIP; 16 Leads; Row Spacing 7.62 mm; Pitch 2.54 mm)
signal-integrity model MC74HC194N
pins: 1 ~{RST} (in), 2 DSR (in), 3 P0 (in), 4 P1 (in), 5 P2 (in), 6 P3 (in), 7 DSL (in), 8 GND (power), 9 S0 (in), 10 S1 (in), 11 CLK (in), 12 Q3 (out), 13 Q2 (out), 14 Q1 (out), 15 Q0 (out), 16 VDD (power)

## MC74HC195N
designator U?
4-Bit Universal Shift Register; Published: 17-Jul-2002; LatestRevisionDate: 06-Jun-2005; LatestRevisionNote: Stylized 3D Model Added; DatasheetVersion: 1989; PackageReference: 648-06; Publisher: Altium Limited; PackageDescription: DIP; 16 Leads; Row Spacing 7.62 mm; Pitch 2.54 mm; ComponentLink1Description: Manufacturer Link; ComponentLink1URL: http://www.onsemi.com/site/products/parametrics/0,4446,557,00.html
footprint 648-06 (DIP; 16 Leads; Row Spacing 7.62 mm; Pitch 2.54 mm)
3D model 648-06 (DIP; 16 Leads; Row Spacing 7.62 mm; Pitch 2.54 mm)
signal-integrity model MC74HC195N
pins: 1 ~{RST} (in), 2 J (in), 3 ~{K} (in), 4 A (in), 5 B (in), 6 C (in), 7 D (in), 8 GND (power), 9 SSFT/~{PLD} (in), 10 CLK (in), 11 ~{QD} (out), 12 QD (out), 13 QC (out), 14 QB (out), 15 QA (out), 16 VDD (power)

## MC74HC299DW
designator U?
8-Bit Bidirectional Universal Shift Register with Parallel I/O; Published: 17-Jul-2002; LatestRevisionDate: 13-Apr-2006; LatestRevisionNote: IPC-7351 Footprint Added.; DatasheetVersion: 1989; PackageReference: 751D-03; Publisher: Altium Limited; PackageDescription: 20-Pin Small Outline Integrated Circuit 1.27 mm Pitch; ComponentLink1Description: Manufacturer Link; ComponentLink1URL: http://www.onsemi.com/site/products/parametrics/0,4446,557,00.html
footprint 751D-03_N (SOIC, 20-Leads, Body 12.8x7.5mm, Pitch 1.27mm, IPC Medium Density)
footprint 751D-03_L (SOIC, 20-Leads, Body 12.8x7.5mm, Pitch 1.27mm, IPC High Density)
footprint 751D-03_M (SOIC, 20-Leads, Body 12.8x7.5mm, Pitch 1.27mm, IPC Low Density)
3D model 751D-03 (20-Pin Small Outline Integrated Circuit 1.27 mm Pitch)
signal-integrity model MC74HC299DW
pins: 1 S0 (in), 2 ~{OE}1 (in), 3 ~{OE}2 (in), 4 I/O6 (io), 5 I/O4 (io), 6 I/O2 (io), 7 I/O0 (io), 8 Q0 (out), 9 ~{MR} (in), 10 GND (power), 11 DS0 (in), 12 CLK (in), 13 I/O1 (io), 14 I/O3 (io), 15 I/O5 (io), 16 I/O7 (io), 17 Q7 (out), 18 DS7 (in), 19 S1 (in), 20 VDD (power)

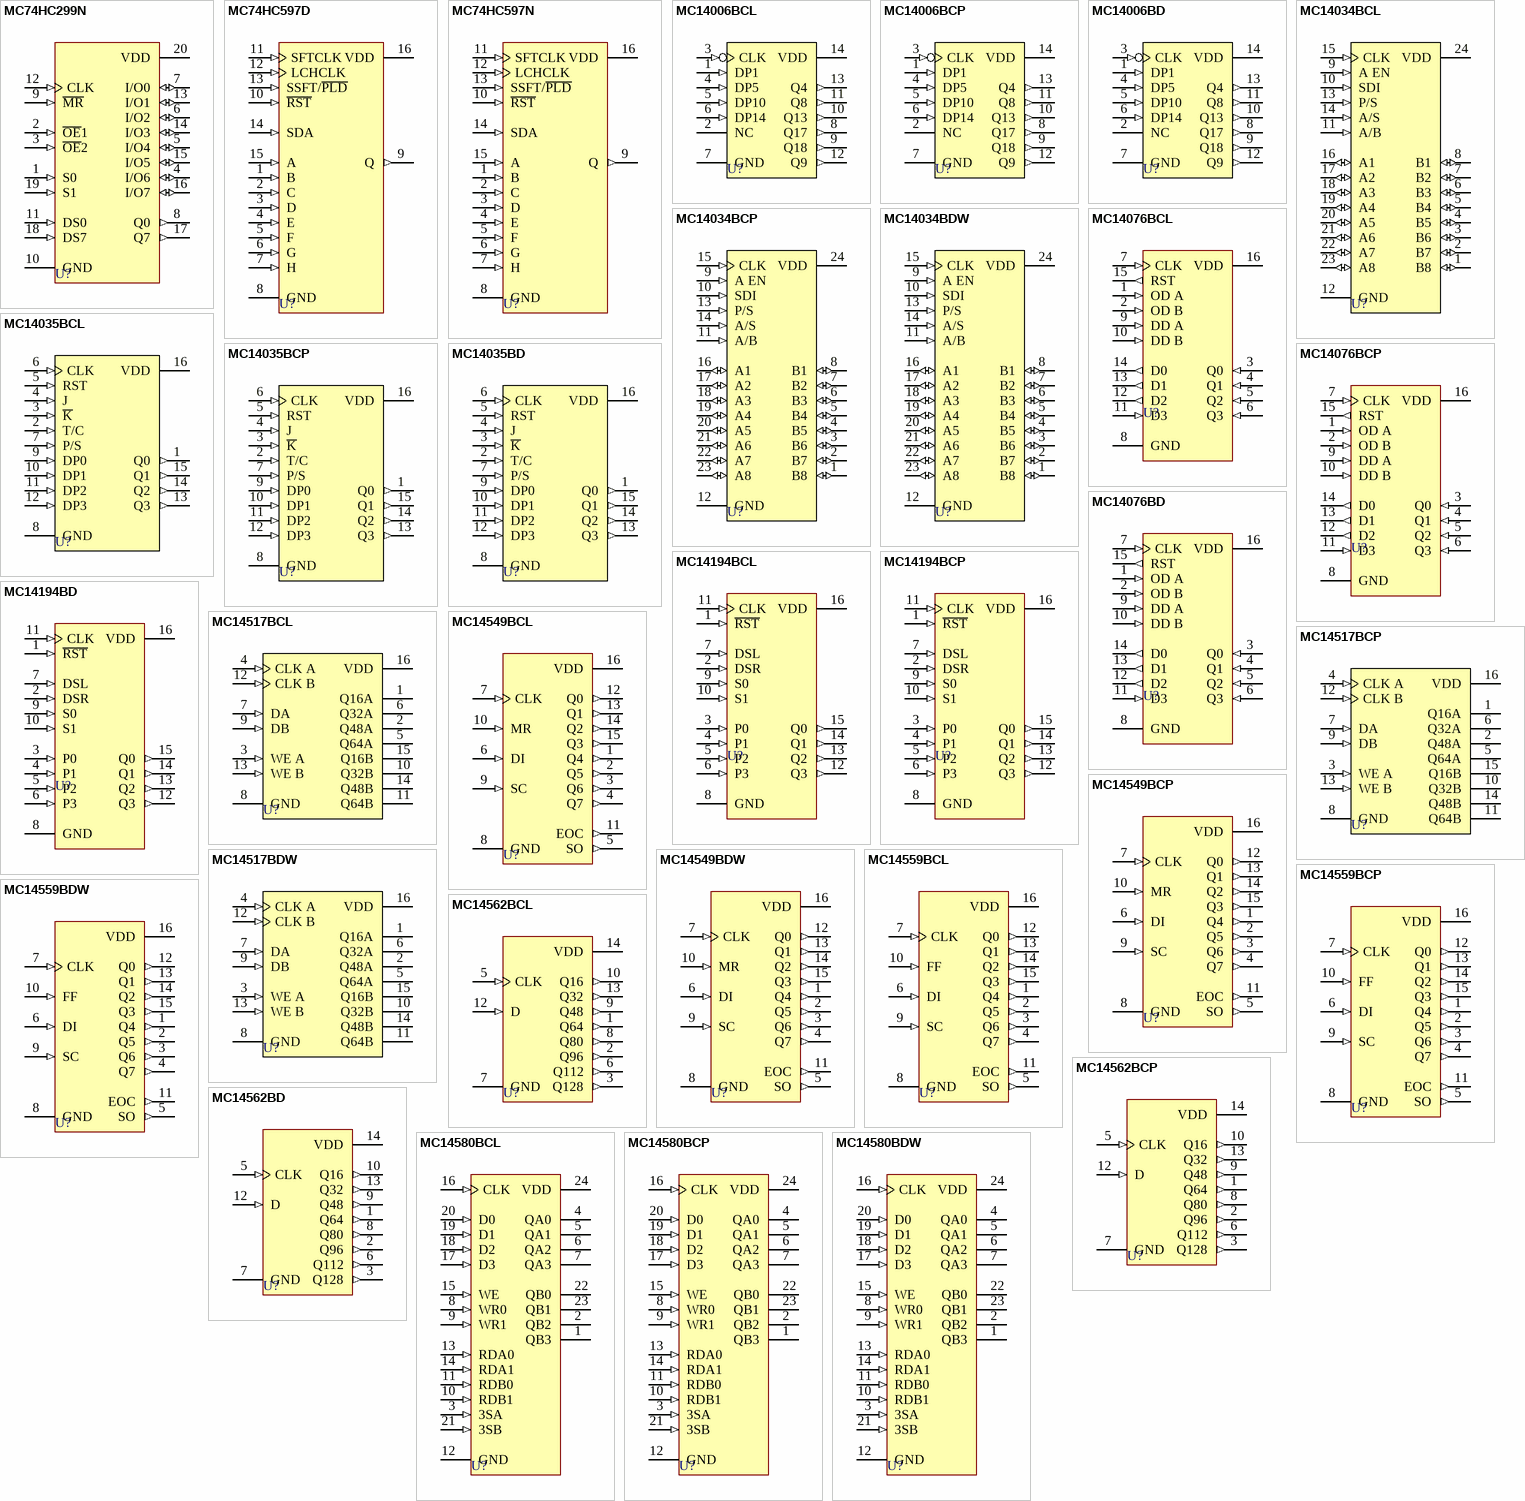
[diagram p1: symbols MC74HC299N to MC14580BDW]

## MC74HC299N
designator U?
8-Bit Bidirectional Universal Shift Register with Parallel I/O; Published: 17-Jul-2002; LatestRevisionDate: 06-Jun-2005; LatestRevisionNote: Stylized 3D Model Added; DatasheetVersion: 1989; PackageReference: 738-03; Publisher: Altium Limited; PackageDescription: DIP; 20 Leads; Row Spacing 7.62 mm; Pitch 2.54 mm; Code_JEDEC: MS-001-AD; ComponentLink1Description: Manufacturer Link; ComponentLink1URL: http://www.onsemi.com/site/products/parametrics/0,4446,557,00.html
footprint 738-03 (DIP; 20 Leads; Row Spacing 7.62 mm; Pitch 2.54 mm)
3D model 738-03 (DIP; 20 Leads; Row Spacing 7.62 mm; Pitch 2.54 mm)
signal-integrity model MC74HC299N
pins: 1 S0 (in), 2 ~{OE}1 (in), 3 ~{OE}2 (in), 4 I/O6 (io), 5 I/O4 (io), 6 I/O2 (io), 7 I/O0 (io), 8 Q0 (out), 9 ~{MR} (in), 10 GND (power), 11 DS0 (in), 12 CLK (in), 13 I/O1 (io), 14 I/O3 (io), 15 I/O5 (io), 16 I/O7 (io), 17 Q7 (out), 18 DS7 (in), 19 S1 (in), 20 VDD (power)

## MC74HC597D
designator U?
8-Bit Serial-or-Parallel-Input/Serial-Output Shift Register with Input Latch; Published: 17-Jul-2002; LatestRevisionDate: 13-Apr-2006; LatestRevisionNote: IPC-7351 Footprint Added.; DatasheetVersion: 1989; PackageVersion: 1991; PackageReference: 751B-03; Publisher: Altium Limited; PackageDescription: 16-Pin Small Outline Integrated Circuit 1.27 mm Pitch; Code_JEDEC: MS-012-AC; Code_IPC: SOIC127P600-16; ComponentLink1Description: Manufacturer Link; ComponentLink1URL: http://www.onsemi.com/site/products/parametrics/0,4446,557,00.html
footprint 751B-03_N (SOIC, 16-Leads, Body 9.9x3.9mm, Pitch 1.27mm, IPC Medium Density)
footprint 751B-03_L (SOIC, 16-Leads, Body 9.9x3.9mm, Pitch 1.27mm, IPC High Density)
footprint 751B-03_M (SOIC, 16-Leads, Body 9.9x3.9mm, Pitch 1.27mm, IPC Low Density)
3D model 751B-03 (16-Pin Small Outline Integrated Circuit 1.27 mm Pitch)
signal-integrity model MC74HC597D
pins: 1 B (in), 2 C (in), 3 D (in), 4 E (in), 5 F (in), 6 G (in), 7 H (in), 8 GND (power), 9 Q (out), 10 ~{RST} (in), 11 SFTCLK (in), 12 LCHCLK (in), 13 SSFT/~{PLD} (in), 14 SDA (in), 15 A (in), 16 VDD (power)

## MC74HC597N
designator U?
8-Bit Serial-or-Parallel-Input/Serial-Output Shift Register with Input Latch; Published: 17-Jul-2002; LatestRevisionDate: 06-Jun-2005; LatestRevisionNote: Stylized 3D Model Added; DatasheetVersion: 1989; PackageReference: 648-08; Publisher: Altium Limited; PackageDescription: DIP; 16 Leads; Row Spacing 7.62 mm; Pitch 2.54 mm; Code_JEDEC: MS-001-BB; ComponentLink1Description: Manufacturer Link; ComponentLink1URL: http://www.onsemi.com/site/products/parametrics/0,4446,557,00.html
footprint 648-08 (DIP; 16 Leads; Row Spacing 7.62 mm; Pitch 2.54 mm)
3D model 620-09 (DIP; 16 Leads; Row Spacing 7.62 mm; Pitch 2.54 mm)
signal-integrity model MC74HC597N
pins: 1 B (in), 2 C (in), 3 D (in), 4 E (in), 5 F (in), 6 G (in), 7 H (in), 8 GND (power), 9 Q (out), 10 ~{RST} (in), 11 SFTCLK (in), 12 LCHCLK (in), 13 SSFT/~{PLD} (in), 14 SDA (in), 15 A (in), 16 VDD (power)

## MC14006BCL
designator U?
18-Bit Static Shift Register; Published: 17-Jul-2002; LatestRevisionDate: 06-Jun-2005; LatestRevisionNote: Stylized 3D Model Added; DatasheetVersion: 1991; PackageReference: 632-08; Publisher: Altium Limited; PackageDescription: DIP; 14 Leads; Row Spacing 7.62 mm; Pitch 2.54 mm; ComponentLink1Description: Manufacturer Link; ComponentLink1URL: http://www.onsemi.com/site/products/parametrics/0,4446,557,00.html
footprint 632-08 (DIP; 14 Leads; Row Spacing 7.62 mm; Pitch 2.54 mm)
3D model 632-08 (DIP; 14 Leads; Row Spacing 7.62 mm; Pitch 2.54 mm)
pins: 1 DP1 (in), 2 NC, 3 CLK (in), 4 DP5 (in), 5 DP10 (in), 6 DP14 (in), 7 GND (power), 8 Q17 (out), 9 Q18 (out), 10 Q13 (out), 11 Q8 (out), 12 Q9 (out), 13 Q4 (out), 14 VDD (power)

## MC14006BCP
designator U?
18-Bit Static Shift Register; Published: 17-Jul-2002; LatestRevisionDate: 06-Jun-2005; LatestRevisionNote: Stylized 3D Model Added; DatasheetVersion: 1991; PackageVersion: 1997; PackageReference: 646-06; Publisher: Altium Limited; PackageDescription: DIP; 14 Leads; Row Spacing 7.62 mm; Pitch 2.54 mm; ComponentLink1Description: Manufacturer Link; ComponentLink1URL: http://www.onsemi.com/site/products/parametrics/0,4446,557,00.html
footprint 646-06 (DIP; 14 Leads; Row Spacing 7.62 mm; Pitch 2.54 mm)
3D model 646-06 (DIP; 14 Leads; Row Spacing 7.62 mm; Pitch 2.54 mm)
pins: 1 DP1 (in), 2 NC, 3 CLK (in), 4 DP5 (in), 5 DP10 (in), 6 DP14 (in), 7 GND (power), 8 Q17 (out), 9 Q18 (out), 10 Q13 (out), 11 Q8 (out), 12 Q9 (out), 13 Q4 (out), 14 VDD (power)

## MC14006BD
designator U?
18-Bit Static Shift Register; Published: 17-Jul-2002; LatestRevisionDate: 13-Apr-2006; LatestRevisionNote: IPC-7351 Footprint Added.; DatasheetVersion: 1991; PackageVersion: 1991; PackageReference: 751A-02; Publisher: Altium Limited; PackageDescription: 14-Pin Small Outline Integrated Circuit 1.27 mm Pitch; Code_IPC: SOIC127P600-14; ComponentLink1Description: Manufacturer Link; ComponentLink1URL: http://www.onsemi.com/site/products/parametrics/0,4446,557,00.html
footprint 751A-02_N (SOIC, 14-Leads, Body 8.7x3.9mm, Pitch 1.27mm, IPC Medium Density)
footprint 751A-02_L (SOIC, 14-Leads, Body 8.7x3.9mm, Pitch 1.27mm, IPC High Density)
footprint 751A-02_M (SOIC, 14-Leads, Body 8.7x3.9mm, Pitch 1.27mm, IPC Low Density)
3D model 751A-02 (14-Pin Small Outline Integrated Circuit 1.27 mm Pitch)
pins: 1 DP1 (in), 2 NC, 3 CLK (in), 4 DP5 (in), 5 DP10 (in), 6 DP14 (in), 7 GND (power), 8 Q17 (out), 9 Q18 (out), 10 Q13 (out), 11 Q8 (out), 12 Q9 (out), 13 Q4 (out), 14 VDD (power)

## MC14034BCL
designator U?
8-Bit Universal Bus Register; Published: 17-Jul-2002; LatestRevisionDate: 06-Jun-2005; LatestRevisionNote: Stylized 3D Model Added; DatasheetVersion: 1991; PackageReference: 623-05; Publisher: Altium Limited; PackageDescription: DIP; 24 Leads; Row Spacing 15.24 mm; Pitch 2.54 mm; Code_JEDEC: MS-011-AA; ComponentLink1Description: Manufacturer Link; ComponentLink1URL: http://www.onsemi.com/site/products/parametrics/0,4446,557,00.html; ComponentLink2Description: Ibis Model; ComponentLink2URL: http://www.onsemi.com/pub/Collateral/MC14034BCL.IBS
footprint 623-05 (DIP; 24 Leads; Row Spacing 15.24 mm; Pitch 2.54 mm)
3D model 623-05 (DIP; 24 Leads; Row Spacing 15.24 mm; Pitch 2.54 mm)
pins: 1 B8 (io), 2 B7 (io), 3 B6 (io), 4 B5 (io), 5 B4 (io), 6 B3 (io), 7 B2 (io), 8 B1 (io), 9 A EN (in), 10 SDI (in), 11 A/B (in), 12 GND (power), 13 P/S (in), 14 A/S (in), 15 CLK (in), 16 A1 (io), 17 A2 (io), 18 A3 (io), 19 A4 (io), 20 A5 (io), 21 A6 (io), 22 A7 (io), 23 A8 (io), 24 VDD (power)

## MC14034BCP
designator U?
8-Bit Universal Bus Register; Published: 17-Jul-2002; LatestRevisionDate: 06-Jun-2005; LatestRevisionNote: Stylized 3D Model Added; DatasheetVersion: 1991; PackageReference: 709-02; Publisher: Altium Limited; PackageDescription: DIP; 24 Leads; Row Spacing 15.24 mm; Pitch 2.54 mm; ComponentLink1Description: Manufacturer Link; ComponentLink1URL: http://www.onsemi.com/site/products/parametrics/0,4446,557,00.html; ComponentLink2Description: Ibis Model; ComponentLink2URL: http://www.onsemi.com/pub/Collateral/MC14034BCL.IBS
footprint 709-02 (DIP; 24 Leads; Row Spacing 15.24 mm; Pitch 2.54 mm)
3D model 709-02 (DIP; 24 Leads; Row Spacing 15.24 mm; Pitch 2.54 mm)
pins: 1 B8 (io), 2 B7 (io), 3 B6 (io), 4 B5 (io), 5 B4 (io), 6 B3 (io), 7 B2 (io), 8 B1 (io), 9 A EN (in), 10 SDI (in), 11 A/B (in), 12 GND (power), 13 P/S (in), 14 A/S (in), 15 CLK (in), 16 A1 (io), 17 A2 (io), 18 A3 (io), 19 A4 (io), 20 A5 (io), 21 A6 (io), 22 A7 (io), 23 A8 (io), 24 VDD (power)

## MC14034BDW
designator U?
8-Bit Universal Bus Register; Published: 17-Jul-2002; LatestRevisionDate: 13-Apr-2006; LatestRevisionNote: IPC-7351 Footprint Added.; DatasheetVersion: 1991; PackageReference: 751E-03; Publisher: Altium Limited; PackageDescription: 24-Pin Small Outline Integrated Circuit 1.27 mm Pitch; Code_IPC: SOIC127P1047-24; ComponentLink1Description: Manufacturer Link; ComponentLink1URL: http://www.onsemi.com/site/products/parametrics/0,4446,557,00.html; ComponentLink2Description: Ibis Model; ComponentLink2URL: http://www.onsemi.com/pub/Collateral/MC14034BCL.IBS
footprint 751E-03_N (SOIC, 24-Leads, Body 15.4x7.5mm, Pitch 1.27mm, IPC Medium Density)
footprint 751E-03_L (SOIC, 24-Leads, Body 15.4x7.5mm, Pitch 1.27mm, IPC High Density)
footprint 751E-03_M (SOIC, 24-Leads, Body 15.4x7.5mm, Pitch 1.27mm, IPC Low Density)
3D model 751E-03 (24-Pin Small Outline Integrated Circuit 1.27 mm Pitch)
pins: 1 B8 (io), 2 B7 (io), 3 B6 (io), 4 B5 (io), 5 B4 (io), 6 B3 (io), 7 B2 (io), 8 B1 (io), 9 A EN (in), 10 SDI (in), 11 A/B (in), 12 GND (power), 13 P/S (in), 14 A/S (in), 15 CLK (in), 16 A1 (io), 17 A2 (io), 18 A3 (io), 19 A4 (io), 20 A5 (io), 21 A6 (io), 22 A7 (io), 23 A8 (io), 24 VDD (power)

## MC14035BCL
designator U?
4-Bit Parallel-In/Parallel-Out Shift Register; Published: 17-Jul-2002; LatestRevisionDate: 06-Jun-2005; LatestRevisionNote: Stylized 3D Model Added; DatasheetVersion: 1991; PackageReference: 620-09; Publisher: Altium Limited; PackageDescription: DIP; 16 Leads; Row Spacing 7.62 mm; Pitch 2.54 mm; Code_JEDEC: MS-001-BB; ComponentLink1Description: Manufacturer Link; ComponentLink1URL: http://www.onsemi.com/site/products/parametrics/0,4446,557,00.html
footprint 620-09 (DIP; 16 Leads; Row Spacing 7.62 mm; Pitch 2.54 mm)
3D model 620-09 (DIP; 16 Leads; Row Spacing 7.62 mm; Pitch 2.54 mm)
pins: 1 Q0 (out), 2 T/C (in), 3 ~{K} (in), 4 J (in), 5 RST (in), 6 CLK (in), 7 P/S (in), 8 GND (power), 9 DP0 (in), 10 DP1 (in), 11 DP2 (in), 12 DP3 (in), 13 Q3 (out), 14 Q2 (out), 15 Q1 (out), 16 VDD (power)

## MC14035BCP
designator U?
4-Bit Parallel-In/Parallel-Out Shift Register; Published: 17-Jul-2002; LatestRevisionDate: 06-Jun-2005; LatestRevisionNote: Stylized 3D Model Added; DatasheetVersion: 1991; PackageReference: 648-08; Publisher: Altium Limited; PackageDescription: DIP; 16 Leads; Row Spacing 7.62 mm; Pitch 2.54 mm; Code_JEDEC: MS-001-BB; ComponentLink1Description: Manufacturer Link; ComponentLink1URL: http://www.onsemi.com/site/products/parametrics/0,4446,557,00.html
footprint 648-08 (DIP; 16 Leads; Row Spacing 7.62 mm; Pitch 2.54 mm)
3D model 620-09 (DIP; 16 Leads; Row Spacing 7.62 mm; Pitch 2.54 mm)
pins: 1 Q0 (out), 2 T/C (in), 3 ~{K} (in), 4 J (in), 5 RST (in), 6 CLK (in), 7 P/S (in), 8 GND (power), 9 DP0 (in), 10 DP1 (in), 11 DP2 (in), 12 DP3 (in), 13 Q3 (out), 14 Q2 (out), 15 Q1 (out), 16 VDD (power)

## MC14035BD
designator U?
4-Bit Parallel-In/Parallel-Out Shift Register; Published: 17-Jul-2002; LatestRevisionDate: 13-Apr-2006; LatestRevisionNote: IPC-7351 Footprint Added.; DatasheetVersion: 1991; PackageVersion: 1991; PackageReference: 751B-03; Publisher: Altium Limited; PackageDescription: 16-Pin Small Outline Integrated Circuit 1.27 mm Pitch; Code_JEDEC: MS-012-AC; Code_IPC: SOIC127P600-16; ComponentLink1Description: Manufacturer Link; ComponentLink1URL: http://www.onsemi.com/site/products/parametrics/0,4446,557,00.html
footprint 751B-03_N (SOIC, 16-Leads, Body 9.9x3.9mm, Pitch 1.27mm, IPC Medium Density)
footprint 751B-03_L (SOIC, 16-Leads, Body 9.9x3.9mm, Pitch 1.27mm, IPC High Density)
footprint 751B-03_M (SOIC, 16-Leads, Body 9.9x3.9mm, Pitch 1.27mm, IPC Low Density)
3D model 751B-03 (16-Pin Small Outline Integrated Circuit 1.27 mm Pitch)
pins: 1 Q0 (out), 2 T/C (in), 3 ~{K} (in), 4 J (in), 5 RST (in), 6 CLK (in), 7 P/S (in), 8 GND (power), 9 DP0 (in), 10 DP1 (in), 11 DP2 (in), 12 DP3 (in), 13 Q3 (out), 14 Q2 (out), 15 Q1 (out), 16 VDD (power)

## MC14076BCL
designator U?
4-Bit D-Type Register with Three-State Outputs; Published: 17-Jul-2002; LatestRevisionDate: 06-Jun-2005; LatestRevisionNote: Stylized 3D Model Added; DatasheetVersion: 1991; PackageReference: 620-09; Publisher: Altium Limited; PackageDescription: DIP; 16 Leads; Row Spacing 7.62 mm; Pitch 2.54 mm; Code_JEDEC: MS-001-BB; ComponentLink1Description: Manufacturer Link; ComponentLink1URL: http://www.onsemi.com/site/products/parametrics/0,4446,557,00.html; ComponentLink2Description: Datasheet; ComponentLink2URL: http://www.onsemi.com/pub/Collateral/MC14076B-D.PDF
footprint 620-09 (DIP; 16 Leads; Row Spacing 7.62 mm; Pitch 2.54 mm)
3D model 620-09 (DIP; 16 Leads; Row Spacing 7.62 mm; Pitch 2.54 mm)
pins: 1 OD A (in), 2 OD B (in), 3 Q0 (in), 4 Q1 (in), 5 Q2 (in), 6 Q3 (in), 7 CLK (in), 8 GND (power), 9 DD A (in), 10 DD B (in), 11 D3 (in), 12 D2 (out), 13 D1 (out), 14 D0 (out), 15 RST (out), 16 VDD (power)

## MC14076BCP
designator U?
4-Bit D-Type Register with Three-State Outputs; Published: 17-Jul-2002; LatestRevisionDate: 06-Jun-2005; LatestRevisionNote: Stylized 3D Model Added; DatasheetVersion: 1991; PackageReference: 648-08; Publisher: Altium Limited; PackageDescription: DIP; 16 Leads; Row Spacing 7.62 mm; Pitch 2.54 mm; Code_JEDEC: MS-001-BB; ComponentLink1Description: Manufacturer Link; ComponentLink1URL: http://www.onsemi.com/site/products/parametrics/0,4446,557,00.html; ComponentLink2Description: Datasheet; ComponentLink2URL: http://www.onsemi.com/pub/Collateral/MC14076B-D.PDF
footprint 648-08 (DIP; 16 Leads; Row Spacing 7.62 mm; Pitch 2.54 mm)
3D model 620-09 (DIP; 16 Leads; Row Spacing 7.62 mm; Pitch 2.54 mm)
pins: 1 OD A (in), 2 OD B (in), 3 Q0 (in), 4 Q1 (in), 5 Q2 (in), 6 Q3 (in), 7 CLK (in), 8 GND (power), 9 DD A (in), 10 DD B (in), 11 D3 (in), 12 D2 (out), 13 D1 (out), 14 D0 (out), 15 RST (out), 16 VDD (power)

## MC14076BD
designator U?
4-Bit D-Type Register with Three-State Outputs; Published: 17-Jul-2002; LatestRevisionDate: 13-Apr-2006; LatestRevisionNote: IPC-7351 Footprint Added.; DatasheetVersion: 1991; PackageVersion: 1991; PackageReference: 751B-03; Publisher: Altium Limited; PackageDescription: 16-Pin Small Outline Integrated Circuit 1.27 mm Pitch; Code_JEDEC: MS-012-AC; Code_IPC: SOIC127P600-16; ComponentLink1Description: Manufacturer Link; ComponentLink1URL: http://www.onsemi.com/site/products/parametrics/0,4446,557,00.html; ComponentLink2Description: Datasheet; ComponentLink2URL: http://www.onsemi.com/pub/Collateral/MC14076B-D.PDF
footprint 751B-03_N (SOIC, 16-Leads, Body 9.9x3.9mm, Pitch 1.27mm, IPC Medium Density)
footprint 751B-03_L (SOIC, 16-Leads, Body 9.9x3.9mm, Pitch 1.27mm, IPC High Density)
footprint 751B-03_M (SOIC, 16-Leads, Body 9.9x3.9mm, Pitch 1.27mm, IPC Low Density)
3D model 751B-03 (16-Pin Small Outline Integrated Circuit 1.27 mm Pitch)
pins: 1 OD A (in), 2 OD B (in), 3 Q0 (in), 4 Q1 (in), 5 Q2 (in), 6 Q3 (in), 7 CLK (in), 8 GND (power), 9 DD A (in), 10 DD B (in), 11 D3 (in), 12 D2 (out), 13 D1 (out), 14 D0 (out), 15 RST (out), 16 VDD (power)

## MC14194BCL
designator U?
4-Bit Bidirectional Universal Shift Register; Published: 17-Jul-2002; LatestRevisionDate: 06-Jun-2005; LatestRevisionNote: Stylized 3D Model Added; DatasheetVersion: 1991; PackageReference: 620-09; Publisher: Altium Limited; PackageDescription: DIP; 16 Leads; Row Spacing 7.62 mm; Pitch 2.54 mm; Code_JEDEC: MS-001-BB; ComponentLink1Description: Manufacturer Link; ComponentLink1URL: http://www.onsemi.com/site/products/parametrics/0,4446,557,00.html
footprint 620-09 (DIP; 16 Leads; Row Spacing 7.62 mm; Pitch 2.54 mm)
3D model 620-09 (DIP; 16 Leads; Row Spacing 7.62 mm; Pitch 2.54 mm)
pins: 1 ~{RST} (in), 2 DSR (in), 3 P0 (in), 4 P1 (in), 5 P2 (in), 6 P3 (in), 7 DSL (in), 8 GND (power), 9 S0 (in), 10 S1 (in), 11 CLK (in), 12 Q3 (out), 13 Q2 (out), 14 Q1 (out), 15 Q0 (out), 16 VDD (power)

## MC14194BCP
designator U?
4-Bit Bidirectional Universal Shift Register; Published: 17-Jul-2002; LatestRevisionDate: 06-Jun-2005; LatestRevisionNote: Stylized 3D Model Added; DatasheetVersion: 1991; PackageReference: 648-08; Publisher: Altium Limited; PackageDescription: DIP; 16 Leads; Row Spacing 7.62 mm; Pitch 2.54 mm; Code_JEDEC: MS-001-BB; ComponentLink1Description: Manufacturer Link; ComponentLink1URL: http://www.onsemi.com/site/products/parametrics/0,4446,557,00.html
footprint 648-08 (DIP; 16 Leads; Row Spacing 7.62 mm; Pitch 2.54 mm)
3D model 620-09 (DIP; 16 Leads; Row Spacing 7.62 mm; Pitch 2.54 mm)
pins: 1 ~{RST} (in), 2 DSR (in), 3 P0 (in), 4 P1 (in), 5 P2 (in), 6 P3 (in), 7 DSL (in), 8 GND (power), 9 S0 (in), 10 S1 (in), 11 CLK (in), 12 Q3 (out), 13 Q2 (out), 14 Q1 (out), 15 Q0 (out), 16 VDD (power)

## MC14194BD
designator U?
4-Bit Bidirectional Universal Shift Register; Published: 17-Jul-2002; LatestRevisionDate: 13-Apr-2006; LatestRevisionNote: IPC-7351 Footprint Added.; DatasheetVersion: 1991; PackageVersion: 1991; PackageReference: 751B-03; Publisher: Altium Limited; PackageDescription: 16-Pin Small Outline Integrated Circuit 1.27 mm Pitch; Code_JEDEC: MS-012-AC; Code_IPC: SOIC127P600-16; ComponentLink1Description: Manufacturer Link; ComponentLink1URL: http://www.onsemi.com/site/products/parametrics/0,4446,557,00.html
footprint 751B-03_N (SOIC, 16-Leads, Body 9.9x3.9mm, Pitch 1.27mm, IPC Medium Density)
footprint 751B-03_L (SOIC, 16-Leads, Body 9.9x3.9mm, Pitch 1.27mm, IPC High Density)
footprint 751B-03_M (SOIC, 16-Leads, Body 9.9x3.9mm, Pitch 1.27mm, IPC Low Density)
3D model 751B-03 (16-Pin Small Outline Integrated Circuit 1.27 mm Pitch)
pins: 1 ~{RST} (in), 2 DSR (in), 3 P0 (in), 4 P1 (in), 5 P2 (in), 6 P3 (in), 7 DSL (in), 8 GND (power), 9 S0 (in), 10 S1 (in), 11 CLK (in), 12 Q3 (out), 13 Q2 (out), 14 Q1 (out), 15 Q0 (out), 16 VDD (power)

## MC14517BCL
designator U?
Dual 64-Bit Static Shift Register; Published: 17-Jul-2002; LatestRevisionDate: 06-Jun-2005; LatestRevisionNote: Stylized 3D Model Added; DatasheetVersion: 1991; PackageReference: 620-09; Publisher: Altium Limited; PackageDescription: DIP; 16 Leads; Row Spacing 7.62 mm; Pitch 2.54 mm; Code_JEDEC: MS-001-BB; ComponentLink1Description: Manufacturer Link; ComponentLink1URL: http://www.onsemi.com/site/products/parametrics/0,4446,557,00.html; ComponentLink2Description: Datasheet; ComponentLink2URL: http://www.onsemi.com/pub/Collateral/MC14517B-D.PDF
footprint 620-09 (DIP; 16 Leads; Row Spacing 7.62 mm; Pitch 2.54 mm)
3D model 620-09 (DIP; 16 Leads; Row Spacing 7.62 mm; Pitch 2.54 mm)
pins: 1 Q16A (hiz), 2 Q48A (hiz), 3 WE A (in), 4 CLK A (in), 5 Q64A (hiz), 6 Q32A (hiz), 7 DA (in), 8 GND (power), 9 DB (in), 10 Q32B (hiz), 11 Q64B (hiz), 12 CLK B (in), 13 WE B (in), 14 Q48B (hiz), 15 Q16B (hiz), 16 VDD (power)